# Altium integrated library Linear Technology Power Management Switching Regulator LT1074-LT8705.IntLib: 2252 symbols (part 84 of 148)
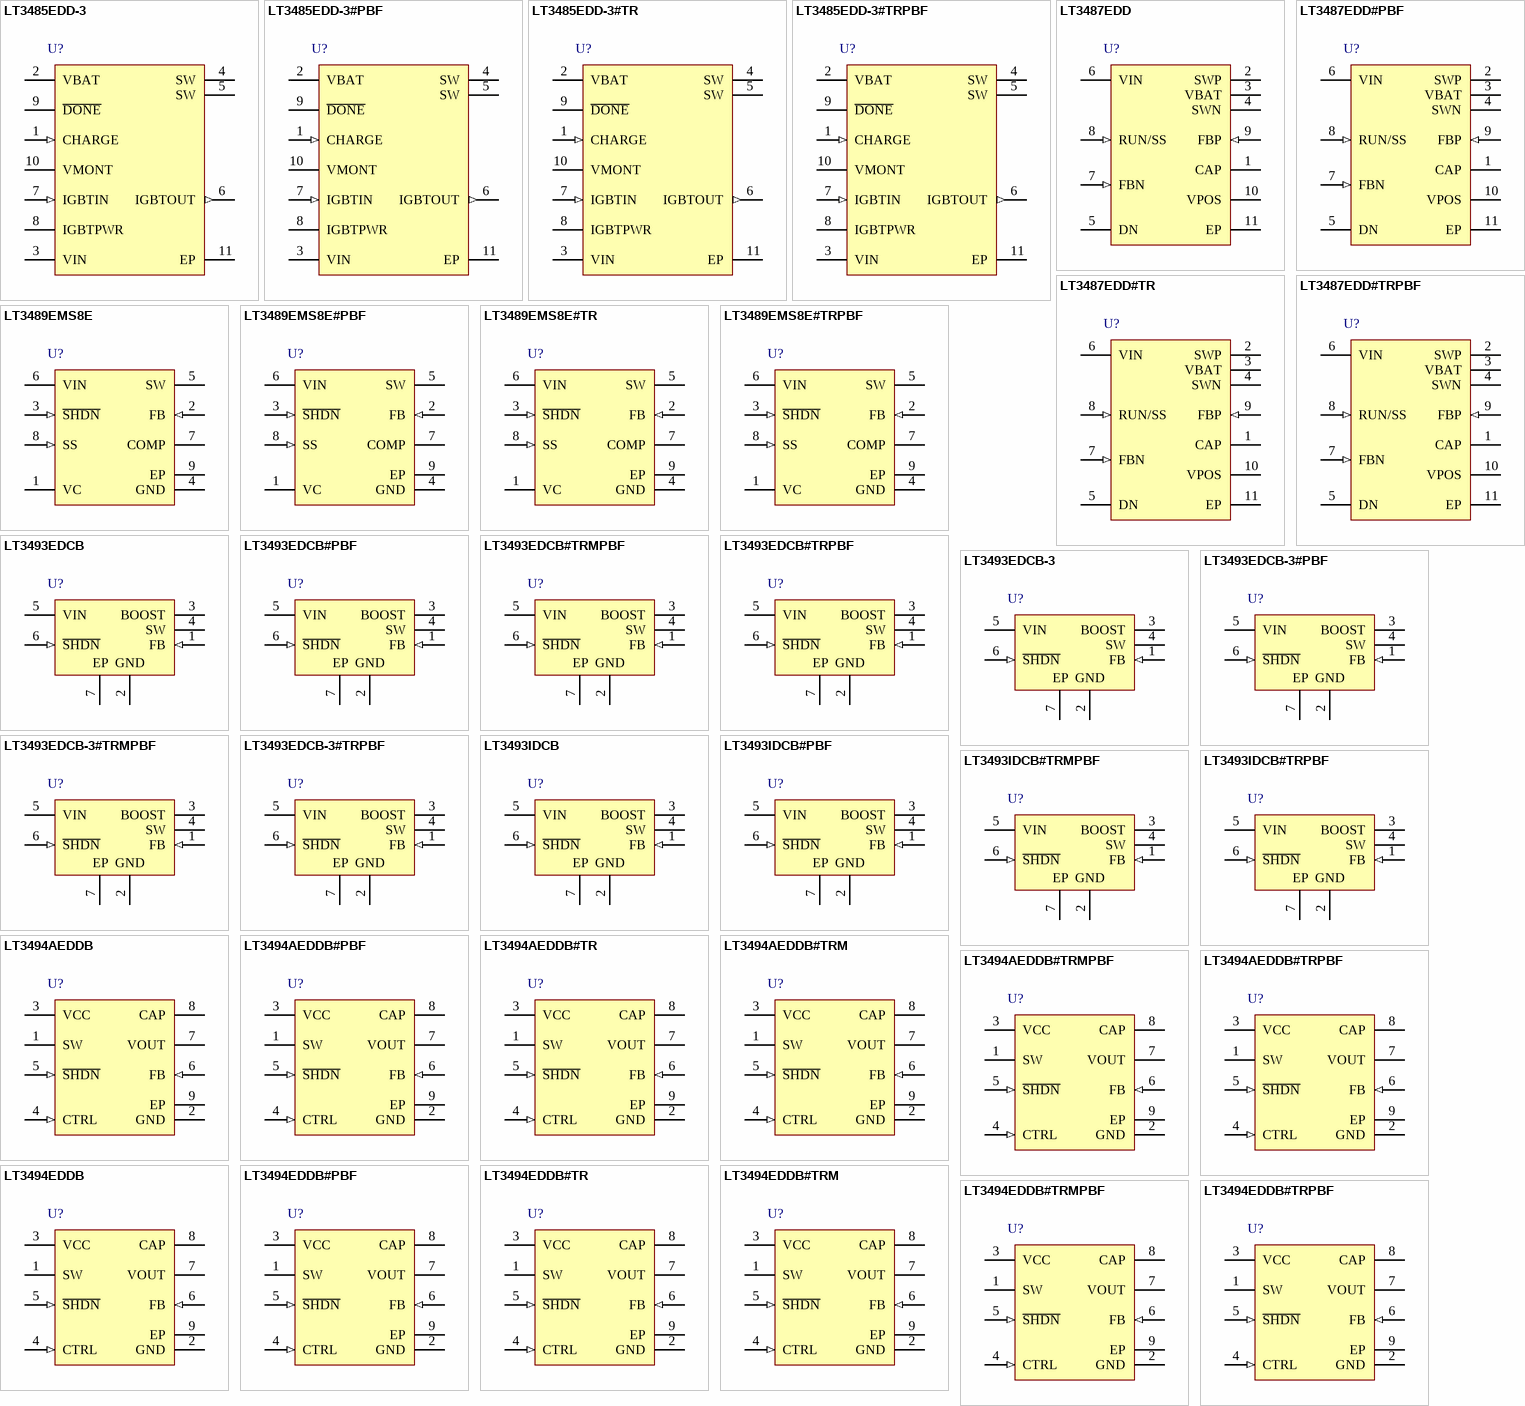
[diagram p154: symbols LT3485EDD-3 to LT3494EDDB#TRPBF]

## LT3493EDCB-3#PBF
designator U?
1.2 A, 750 kHz Step-Down Switching Regulator, 6-pin SON (DCB-6), -40 to 85 degC, Pb-Free; Manufacturer: Linear Technology; PartNumber: LT3493EDCB-3#PBF; Number of Outputs: 1; Over Voltage Protection(V): 40; PackageVersion: Rev. A, 03/2011; PackageReference: DCB-6; PackageDescription: 6-Pin Plastic DFN, Body 2 x 3 mm, Pitch 0.5 mm; RoHS: TRUE; Mounting Technology: Surface Mount; Code_JEDEC: MO-229; ComponentLink1Description: Manufacturer URL; ComponentLink1URL: http://www.linear.com/; ComponentLink2Description: Datasheet; ComponentLink2URL: http://cds.linear.com/docs/en/datasheet/3493-3f.pdf; ComponentLink3Description: Package Specification; ComponentLink3URL: http://www.linear.com/docs/en/packaging/(DCB6)%20DFN%2005-08-1715%20Rev%20A.pdf
footprint LT-DCB-6_V (SON, 6-Leads, Body 3x2mm, Pitch 0.5mm, Thermal Pad 1.65x1.35mm)
pins: 1 FB (in) "The LT3493-3 regulates its feedback pin to 780mV. Connect the feedback resistor divider tap to this pin. Set the output voltage according to VOUT = 0.78V x (1 + R1/R2). A good value for R2 is 10k.", 2 GND (power) "Tie the GND pin to a local ground plane below the LT3493-3 and the circuit components. Return the feedback divider to this pin.", 3 BOOST "The BOOST pin is used to provide a drive voltage, higher than the input voltage, to the internal bipolar NPN power switch.", 4 SW (power) "The SW pin is the output of the internal power switch. Connect this pin to the inductor, catch diode and boost capacitor.", 5 VIN (power) "The VIN pin supplies current to the LT3493-3's internal regulator and to the internal power switch. This pin must be locally bypassed.", 6 ~{SHDN} (in) "The S\H\D\N\ pin is used to put the LT3493-3 in shutdown mode. Tie to ground to shut down the LT3493-3. Tie to 2.3V or more for normal operation. If the shutdown feature is not used, tie this pin to the VIN pin. S\H\D\N\ (See Datasheet)", 7 EP (power) "The Exposed Pad must be soldered to the PCB and electrically connected to ground. Use a large ground plane and thermal vias to optimize thermal performance."

## LT3493EDCB-3#TRMPBF
designator U?
1.2 A, 750 kHz Step-Down Switching Regulator, 6-pin SON (DCB-6), -40 to 85 degC, Pb-Free, Mini Tape and Reel; Manufacturer: Linear Technology; PartNumber: LT3493EDCB-3#TRMPBF; Number of Outputs: 1; Over Voltage Protection(V): 40; PackageVersion: Rev. A, 03/2011; PackageReference: DCB-6; PackageDescription: 6-Pin Plastic DFN, Body 2 x 3 mm, Pitch 0.5 mm; Supplier 1: Digi-Key; Supplier Part Number 1: LT3493EDCB-3#TRMPBF-ND; Packing: Mini Tape and Reel; RoHS: TRUE; Mounting Technology: Surface Mount; Code_JEDEC: MO-229; ComponentLink1Description: Manufacturer URL; ComponentLink1URL: http://www.linear.com/; ComponentLink2Description: Datasheet; ComponentLink2URL: http://cds.linear.com/docs/en/datasheet/3493-3f.pdf; ComponentLink3Description: Package Specification; ComponentLink3URL: http://www.linear.com/docs/en/packaging/(DCB6)%20DFN%2005-08-1715%20Rev%20A.pdf
footprint LT-DCB-6_V (SON, 6-Leads, Body 3x2mm, Pitch 0.5mm, Thermal Pad 1.65x1.35mm)
pins: 1 FB (in) "The LT3493-3 regulates its feedback pin to 780mV. Connect the feedback resistor divider tap to this pin. Set the output voltage according to VOUT = 0.78V x (1 + R1/R2). A good value for R2 is 10k.", 2 GND (power) "Tie the GND pin to a local ground plane below the LT3493-3 and the circuit components. Return the feedback divider to this pin.", 3 BOOST "The BOOST pin is used to provide a drive voltage, higher than the input voltage, to the internal bipolar NPN power switch.", 4 SW (power) "The SW pin is the output of the internal power switch. Connect this pin to the inductor, catch diode and boost capacitor.", 5 VIN (power) "The VIN pin supplies current to the LT3493-3's internal regulator and to the internal power switch. This pin must be locally bypassed.", 6 ~{SHDN} (in) "The S\H\D\N\ pin is used to put the LT3493-3 in shutdown mode. Tie to ground to shut down the LT3493-3. Tie to 2.3V or more for normal operation. If the shutdown feature is not used, tie this pin to the VIN pin. S\H\D\N\ (See Datasheet)", 7 EP (power) "The Exposed Pad must be soldered to the PCB and electrically connected to ground. Use a large ground plane and thermal vias to optimize thermal performance."

## LT3493EDCB-3#TRPBF
designator U?
1.2 A, 750 kHz Step-Down Switching Regulator, 6-pin SON (DCB-6), -40 to 85 degC, Pb-Free, Tape and Reel; Manufacturer: Linear Technology; PartNumber: LT3493EDCB-3#TRPBF; Number of Outputs: 1; Over Voltage Protection(V): 40; PackageVersion: Rev. A, 03/2011; PackageReference: DCB-6; PackageDescription: 6-Pin Plastic DFN, Body 2 x 3 mm, Pitch 0.5 mm; Supplier 1: Digi-Key; Supplier Part Number 1: LT3493EDCB-3#TRPBF-ND; Packing: Tape and Reel; RoHS: TRUE; Mounting Technology: Surface Mount; Code_JEDEC: MO-229; ComponentLink1Description: Manufacturer URL; ComponentLink1URL: http://www.linear.com/; ComponentLink2Description: Datasheet; ComponentLink2URL: http://cds.linear.com/docs/en/datasheet/3493-3f.pdf; ComponentLink3Description: Package Specification; ComponentLink3URL: http://www.linear.com/docs/en/packaging/(DCB6)%20DFN%2005-08-1715%20Rev%20A.pdf
footprint LT-DCB-6_V (SON, 6-Leads, Body 3x2mm, Pitch 0.5mm, Thermal Pad 1.65x1.35mm)
pins: 1 FB (in) "The LT3493-3 regulates its feedback pin to 780mV. Connect the feedback resistor divider tap to this pin. Set the output voltage according to VOUT = 0.78V x (1 + R1/R2). A good value for R2 is 10k.", 2 GND (power) "Tie the GND pin to a local ground plane below the LT3493-3 and the circuit components. Return the feedback divider to this pin.", 3 BOOST "The BOOST pin is used to provide a drive voltage, higher than the input voltage, to the internal bipolar NPN power switch.", 4 SW (power) "The SW pin is the output of the internal power switch. Connect this pin to the inductor, catch diode and boost capacitor.", 5 VIN (power) "The VIN pin supplies current to the LT3493-3's internal regulator and to the internal power switch. This pin must be locally bypassed.", 6 ~{SHDN} (in) "The S\H\D\N\ pin is used to put the LT3493-3 in shutdown mode. Tie to ground to shut down the LT3493-3. Tie to 2.3V or more for normal operation. If the shutdown feature is not used, tie this pin to the VIN pin. S\H\D\N\ (See Datasheet)", 7 EP (power) "The Exposed Pad must be soldered to the PCB and electrically connected to ground. Use a large ground plane and thermal vias to optimize thermal performance."

## LT3493IDCB
designator U?
1.2 A, 750 kHz Step-Down Switching Regulator, 6-pin SON (DCB-6), -40 to 125 degC; Manufacturer: Linear Technology; PartNumber: LT3493IDCB; Number of Outputs: 1; Over Voltage Protection(V): 40; DatasheetVersion: Rev. B; PackageVersion: Rev. A, 03/2011; PackageReference: DCB-6; PackageDescription: 6-Pin Plastic DFN, Body 2 x 3 mm, Pitch 0.5 mm; Supplier 1: Newark; Supplier Part Number 1: 24W8908; RoHS: FALSE; Mounting Technology: Surface Mount; Code_JEDEC: MO-229; ComponentLink1Description: Manufacturer URL; ComponentLink1URL: http://www.linear.com/; ComponentLink2Description: Datasheet; ComponentLink2URL: http://cds.linear.com/docs/en/datasheet/3493fb.pdf; ComponentLink3Description: Package Specification; ComponentLink3URL: http://www.linear.com/docs/en/packaging/(DCB6)%20DFN%2005-08-1715%20Rev%20A.pdf
footprint LT-DCB-6_V (SON, 6-Leads, Body 3x2mm, Pitch 0.5mm, Thermal Pad 1.65x1.35mm)
pins: 1 FB (in) "The LT3493-3 regulates its feedback pin to 780mV. Connect the feedback resistor divider tap to this pin. Set the output voltage according to VOUT = 0.78V x (1 + R1/R2). A good value for R2 is 10k.", 2 GND (power) "Tie the GND pin to a local ground plane below the LT3493-3 and the circuit components. Return the feedback divider to this pin.", 3 BOOST "The BOOST pin is used to provide a drive voltage, higher than the input voltage, to the internal bipolar NPN power switch.", 4 SW (power) "The SW pin is the output of the internal power switch. Connect this pin to the inductor, catch diode and boost capacitor.", 5 VIN (power) "The VIN pin supplies current to the LT3493-3's internal regulator and to the internal power switch. This pin must be locally bypassed.", 6 ~{SHDN} (in) "The S\H\D\N\ pin is used to put the LT3493-3 in shutdown mode. Tie to ground to shut down the LT3493-3. Tie to 2.3V or more for normal operation. If the shutdown feature is not used, tie this pin to the VIN pin. S\H\D\N\ (See Datasheet)", 7 EP (power) "The Exposed Pad must be soldered to the PCB and electrically connected to ground. Use a large ground plane and thermal vias to optimize thermal performance."

## LT3493IDCB#PBF
designator U?
1.2 A, 750 kHz Step-Down Switching Regulator, 6-pin SON (DCB-6), -40 to 125 degC, Pb-Free; Manufacturer: Linear Technology; PartNumber: LT3493IDCB#PBF; Number of Outputs: 1; Over Voltage Protection(V): 40; DatasheetVersion: Rev. B; PackageVersion: Rev. A, 03/2011; PackageReference: DCB-6; PackageDescription: 6-Pin Plastic DFN, Body 2 x 3 mm, Pitch 0.5 mm; Supplier 1: Farnell; Supplier Part Number 1: 2294918; Supplier 2: Newark; Supplier Part Number 2: 06R5448; RoHS: TRUE; Mounting Technology: Surface Mount; Code_JEDEC: MO-229; ComponentLink1Description: Manufacturer URL; ComponentLink1URL: http://www.linear.com/; ComponentLink2Description: Datasheet; ComponentLink2URL: http://cds.linear.com/docs/en/datasheet/3493fb.pdf; ComponentLink3Description: Package Specification; ComponentLink3URL: http://www.linear.com/docs/en/packaging/(DCB6)%20DFN%2005-08-1715%20Rev%20A.pdf
footprint LT-DCB-6_V (SON, 6-Leads, Body 3x2mm, Pitch 0.5mm, Thermal Pad 1.65x1.35mm)
pins: 1 FB (in) "The LT3493-3 regulates its feedback pin to 780mV. Connect the feedback resistor divider tap to this pin. Set the output voltage according to VOUT = 0.78V x (1 + R1/R2). A good value for R2 is 10k.", 2 GND (power) "Tie the GND pin to a local ground plane below the LT3493-3 and the circuit components. Return the feedback divider to this pin.", 3 BOOST "The BOOST pin is used to provide a drive voltage, higher than the input voltage, to the internal bipolar NPN power switch.", 4 SW (power) "The SW pin is the output of the internal power switch. Connect this pin to the inductor, catch diode and boost capacitor.", 5 VIN (power) "The VIN pin supplies current to the LT3493-3's internal regulator and to the internal power switch. This pin must be locally bypassed.", 6 ~{SHDN} (in) "The S\H\D\N\ pin is used to put the LT3493-3 in shutdown mode. Tie to ground to shut down the LT3493-3. Tie to 2.3V or more for normal operation. If the shutdown feature is not used, tie this pin to the VIN pin. S\H\D\N\ (See Datasheet)", 7 EP (power) "The Exposed Pad must be soldered to the PCB and electrically connected to ground. Use a large ground plane and thermal vias to optimize thermal performance."

## LT3493IDCB#TRMPBF
designator U?
1.2 A, 750 kHz Step-Down Switching Regulator, 6-pin SON (DCB-6), -40 to 125 degC, Pb-Free, Mini Tape and Reel; Manufacturer: Linear Technology; PartNumber: LT3493IDCB#TRMPBF; Number of Outputs: 1; Over Voltage Protection(V): 40; DatasheetVersion: Rev. B; PackageVersion: Rev. A, 03/2011; PackageReference: DCB-6; PackageDescription: 6-Pin Plastic DFN, Body 2 x 3 mm, Pitch 0.5 mm; Supplier 1: Digi-Key; Supplier Part Number 1: LT3493IDCB#TRMPBF-ND; Supplier 2: Newark; Supplier Part Number 2: 57M8432; Packing: Mini Tape and Reel; RoHS: TRUE; Mounting Technology: Surface Mount; Code_JEDEC: MO-229; ComponentLink1Description: Manufacturer URL; ComponentLink1URL: http://www.linear.com/; ComponentLink2Description: Datasheet; ComponentLink2URL: http://cds.linear.com/docs/en/datasheet/3493fb.pdf; ComponentLink3Description: Package Specification; ComponentLink3URL: http://www.linear.com/docs/en/packaging/(DCB6)%20DFN%2005-08-1715%20Rev%20A.pdf
footprint LT-DCB-6_V (SON, 6-Leads, Body 3x2mm, Pitch 0.5mm, Thermal Pad 1.65x1.35mm)
pins: 1 FB (in) "The LT3493-3 regulates its feedback pin to 780mV. Connect the feedback resistor divider tap to this pin. Set the output voltage according to VOUT = 0.78V x (1 + R1/R2). A good value for R2 is 10k.", 2 GND (power) "Tie the GND pin to a local ground plane below the LT3493-3 and the circuit components. Return the feedback divider to this pin.", 3 BOOST "The BOOST pin is used to provide a drive voltage, higher than the input voltage, to the internal bipolar NPN power switch.", 4 SW (power) "The SW pin is the output of the internal power switch. Connect this pin to the inductor, catch diode and boost capacitor.", 5 VIN (power) "The VIN pin supplies current to the LT3493-3's internal regulator and to the internal power switch. This pin must be locally bypassed.", 6 ~{SHDN} (in) "The S\H\D\N\ pin is used to put the LT3493-3 in shutdown mode. Tie to ground to shut down the LT3493-3. Tie to 2.3V or more for normal operation. If the shutdown feature is not used, tie this pin to the VIN pin. S\H\D\N\ (See Datasheet)", 7 EP (power) "The Exposed Pad must be soldered to the PCB and electrically connected to ground. Use a large ground plane and thermal vias to optimize thermal performance."

## LT3493IDCB#TRPBF
designator U?
1.2 A, 750 kHz Step-Down Switching Regulator, 6-pin SON (DCB-6), -40 to 125 degC, Pb-Free, Tape and Reel; Manufacturer: Linear Technology; PartNumber: LT3493IDCB#TRPBF; Number of Outputs: 1; Over Voltage Protection(V): 40; DatasheetVersion: Rev. B; PackageVersion: Rev. A, 03/2011; PackageReference: DCB-6; PackageDescription: 6-Pin Plastic DFN, Body 2 x 3 mm, Pitch 0.5 mm; Supplier 1: Digi-Key; Supplier Part Number 1: LT3493IDCB#TRPBF-ND; Supplier 2: Newark; Supplier Part Number 2: 57M8433; Packing: Tape and Reel; RoHS: TRUE; Mounting Technology: Surface Mount; Code_JEDEC: MO-229; ComponentLink1Description: Manufacturer URL; ComponentLink1URL: http://www.linear.com/; ComponentLink2Description: Datasheet; ComponentLink2URL: http://cds.linear.com/docs/en/datasheet/3493fb.pdf; ComponentLink3Description: Package Specification; ComponentLink3URL: http://www.linear.com/docs/en/packaging/(DCB6)%20DFN%2005-08-1715%20Rev%20A.pdf
footprint LT-DCB-6_V (SON, 6-Leads, Body 3x2mm, Pitch 0.5mm, Thermal Pad 1.65x1.35mm)
pins: 1 FB (in) "The LT3493-3 regulates its feedback pin to 780mV. Connect the feedback resistor divider tap to this pin. Set the output voltage according to VOUT = 0.78V x (1 + R1/R2). A good value for R2 is 10k.", 2 GND (power) "Tie the GND pin to a local ground plane below the LT3493-3 and the circuit components. Return the feedback divider to this pin.", 3 BOOST "The BOOST pin is used to provide a drive voltage, higher than the input voltage, to the internal bipolar NPN power switch.", 4 SW (power) "The SW pin is the output of the internal power switch. Connect this pin to the inductor, catch diode and boost capacitor.", 5 VIN (power) "The VIN pin supplies current to the LT3493-3's internal regulator and to the internal power switch. This pin must be locally bypassed.", 6 ~{SHDN} (in) "The S\H\D\N\ pin is used to put the LT3493-3 in shutdown mode. Tie to ground to shut down the LT3493-3. Tie to 2.3V or more for normal operation. If the shutdown feature is not used, tie this pin to the VIN pin. S\H\D\N\ (See Datasheet)", 7 EP (power) "The Exposed Pad must be soldered to the PCB and electrically connected to ground. Use a large ground plane and thermal vias to optimize thermal performance."

## LT3494AEDDB
designator U?
Micropower Low Noise Boost Converter with Output Disconnect, 8-pin SON (DDB-8), -40 to 85 degC; Manufacturer: Linear Technology; PartNumber: LT3494AEDDB; Number of Outputs: 1; DatasheetVersion: Rev. B; PackageVersion: Rev. B, 06/2010; PackageReference: DDB-8; PackageDescription: 8-Pin Plastic DFN, Body 3 x 2 mm, Pitch 0.5 mm; RoHS: FALSE; Mounting Technology: Surface Mount; Code_JEDEC: MO-229; ComponentLink1Description: Manufacturer URL; ComponentLink1URL: http://www.linear.com/; ComponentLink2Description: Datasheet; ComponentLink2URL: http://cds.linear.com/docs/en/datasheet/3494fb.pdf; ComponentLink3Description: Package Specification; ComponentLink3URL: http://cds.linear.com/docs/en/packaging/DFN_8_05-08-1702.pdf
footprint LT-DDB-8_V (SON, 8-Leads, Body 3x2mm, Pitch 0.5mm, Thermal Pad 2.2x0.61mm)
pins: 1 SW "Switch Pin. This is the collector of the internal NPN power switch. Minimize the metal trace area connected to this pin to minimize EMI.", 2 GND (power) "Ground. Tie directly to local ground plane.", 3 VCC (power) "Input Supply Pin. Must be locally bypassed.", 4 CTRL (in) "Dimming Pin. If not used, tie CTRL to 1.5V or higher. If in use, drive CTRL below 1.225V to override the internal reference. See Applications Information for more information.", 5 ~{SHDN} (in) "Shutdown Pin. Tie to 1.5V or more to enable device. Ground to shut down.", 6 FB (in) "Feedback Pin. Reference voltage is 1.225V. There is an internal 182k resistor from the FB pin to GND. To achieve the desired output voltage, choose R1 according to the following formula: R1=182 x (VOUT(MAX)/1.225-1) kohm", 7 VOUT (power) "Drain of Output Disconnect PMOS. Place a bypass capacitor from this pin to GND. See Applications Information.", 8 CAP "This is the cathode of the internal Schottky diode. Place a bypass capacitor from this pin to GND.", 9 EP (power) "Ground. This pin must be soldered to PCB."

## LT3494AEDDB#PBF
designator U?
Micropower Low Noise Boost Converter with Output Disconnect, 8-pin SON (DDB-8), -40 to 85 degC, Pb-Free; Manufacturer: Linear Technology; PartNumber: LT3494AEDDB#PBF; Number of Outputs: 1; DatasheetVersion: Rev. B; PackageVersion: Rev. B, 06/2010; PackageReference: DDB-8; PackageDescription: 8-Pin Plastic DFN, Body 3 x 2 mm, Pitch 0.5 mm; Supplier 1: Farnell; Supplier Part Number 1: 2294919; Supplier 2: Newark; Supplier Part Number 2: 46P5040; RoHS: TRUE; Mounting Technology: Surface Mount; Code_JEDEC: MO-229; ComponentLink1Description: Manufacturer URL; ComponentLink1URL: http://www.linear.com/; ComponentLink2Description: Datasheet; ComponentLink2URL: http://cds.linear.com/docs/en/datasheet/3494fb.pdf; ComponentLink3Description: Package Specification; ComponentLink3URL: http://cds.linear.com/docs/en/packaging/DFN_8_05-08-1702.pdf
footprint LT-DDB-8_V (SON, 8-Leads, Body 3x2mm, Pitch 0.5mm, Thermal Pad 2.2x0.61mm)
pins: 1 SW "Switch Pin. This is the collector of the internal NPN power switch. Minimize the metal trace area connected to this pin to minimize EMI.", 2 GND (power) "Ground. Tie directly to local ground plane.", 3 VCC (power) "Input Supply Pin. Must be locally bypassed.", 4 CTRL (in) "Dimming Pin. If not used, tie CTRL to 1.5V or higher. If in use, drive CTRL below 1.225V to override the internal reference. See Applications Information for more information.", 5 ~{SHDN} (in) "Shutdown Pin. Tie to 1.5V or more to enable device. Ground to shut down.", 6 FB (in) "Feedback Pin. Reference voltage is 1.225V. There is an internal 182k resistor from the FB pin to GND. To achieve the desired output voltage, choose R1 according to the following formula: R1=182 x (VOUT(MAX)/1.225-1) kohm", 7 VOUT (power) "Drain of Output Disconnect PMOS. Place a bypass capacitor from this pin to GND. See Applications Information.", 8 CAP "This is the cathode of the internal Schottky diode. Place a bypass capacitor from this pin to GND.", 9 EP (power) "Ground. This pin must be soldered to PCB."

## LT3494AEDDB#TR
designator U?
Micropower Low Noise Boost Converter with Output Disconnect, 8-pin SON (DDB-8), -40 to 85 degC, Tape and Reel; Manufacturer: Linear Technology; PartNumber: LT3494AEDDB#TR; Number of Outputs: 1; DatasheetVersion: Rev. B; PackageVersion: Rev. B, 06/2010; PackageReference: DDB-8; PackageDescription: 8-Pin Plastic DFN, Body 3 x 2 mm, Pitch 0.5 mm; Packing: Tape and Reel; RoHS: FALSE; Mounting Technology: Surface Mount; Code_JEDEC: MO-229; ComponentLink1Description: Manufacturer URL; ComponentLink1URL: http://www.linear.com/; ComponentLink2Description: Datasheet; ComponentLink2URL: http://cds.linear.com/docs/en/datasheet/3494fb.pdf; ComponentLink3Description: Package Specification; ComponentLink3URL: http://cds.linear.com/docs/en/packaging/DFN_8_05-08-1702.pdf
footprint LT-DDB-8_V (SON, 8-Leads, Body 3x2mm, Pitch 0.5mm, Thermal Pad 2.2x0.61mm)
pins: 1 SW "Switch Pin. This is the collector of the internal NPN power switch. Minimize the metal trace area connected to this pin to minimize EMI.", 2 GND (power) "Ground. Tie directly to local ground plane.", 3 VCC (power) "Input Supply Pin. Must be locally bypassed.", 4 CTRL (in) "Dimming Pin. If not used, tie CTRL to 1.5V or higher. If in use, drive CTRL below 1.225V to override the internal reference. See Applications Information for more information.", 5 ~{SHDN} (in) "Shutdown Pin. Tie to 1.5V or more to enable device. Ground to shut down.", 6 FB (in) "Feedback Pin. Reference voltage is 1.225V. There is an internal 182k resistor from the FB pin to GND. To achieve the desired output voltage, choose R1 according to the following formula: R1=182 x (VOUT(MAX)/1.225-1) kohm", 7 VOUT (power) "Drain of Output Disconnect PMOS. Place a bypass capacitor from this pin to GND. See Applications Information.", 8 CAP "This is the cathode of the internal Schottky diode. Place a bypass capacitor from this pin to GND.", 9 EP (power) "Ground. This pin must be soldered to PCB."

## LT3494AEDDB#TRM
designator U?
Micropower Low Noise Boost Converter with Output Disconnect, 8-pin SON (DDB-8), -40 to 85 degC, Mini Tape and Reel; Manufacturer: Linear Technology; PartNumber: LT3494AEDDB#TRM; Number of Outputs: 1; DatasheetVersion: Rev. B; PackageVersion: Rev. B, 06/2010; PackageReference: DDB-8; PackageDescription: 8-Pin Plastic DFN, Body 3 x 2 mm, Pitch 0.5 mm; Packing: Mini Tape and Reel; RoHS: FALSE; Mounting Technology: Surface Mount; Code_JEDEC: MO-229; ComponentLink1Description: Manufacturer URL; ComponentLink1URL: http://www.linear.com/; ComponentLink2Description: Datasheet; ComponentLink2URL: http://cds.linear.com/docs/en/datasheet/3494fb.pdf; ComponentLink3Description: Package Specification; ComponentLink3URL: http://cds.linear.com/docs/en/packaging/DFN_8_05-08-1702.pdf
footprint LT-DDB-8_V (SON, 8-Leads, Body 3x2mm, Pitch 0.5mm, Thermal Pad 2.2x0.61mm)
pins: 1 SW "Switch Pin. This is the collector of the internal NPN power switch. Minimize the metal trace area connected to this pin to minimize EMI.", 2 GND (power) "Ground. Tie directly to local ground plane.", 3 VCC (power) "Input Supply Pin. Must be locally bypassed.", 4 CTRL (in) "Dimming Pin. If not used, tie CTRL to 1.5V or higher. If in use, drive CTRL below 1.225V to override the internal reference. See Applications Information for more information.", 5 ~{SHDN} (in) "Shutdown Pin. Tie to 1.5V or more to enable device. Ground to shut down.", 6 FB (in) "Feedback Pin. Reference voltage is 1.225V. There is an internal 182k resistor from the FB pin to GND. To achieve the desired output voltage, choose R1 according to the following formula: R1=182 x (VOUT(MAX)/1.225-1) kohm", 7 VOUT (power) "Drain of Output Disconnect PMOS. Place a bypass capacitor from this pin to GND. See Applications Information.", 8 CAP "This is the cathode of the internal Schottky diode. Place a bypass capacitor from this pin to GND.", 9 EP (power) "Ground. This pin must be soldered to PCB."

## LT3494AEDDB#TRMPBF
designator U?
Micropower Low Noise Boost Converter with Output Disconnect, 8-pin SON (DDB-8), -40 to 85 degC, Pb-Free, Mini Tape and Reel; Manufacturer: Linear Technology; PartNumber: LT3494AEDDB#TRMPBF; Number of Outputs: 1; DatasheetVersion: Rev. B; PackageVersion: Rev. B, 06/2010; PackageReference: DDB-8; PackageDescription: 8-Pin Plastic DFN, Body 3 x 2 mm, Pitch 0.5 mm; Supplier 1: Digi-Key; Supplier Part Number 1: LT3494AEDDB#TRMPBFTR-ND; Supplier 2: Digi-Key; Supplier Part Number 2: LT3494AEDDB#TRMPBFCT-ND; Supplier 3: Digi-Key; Supplier Part Number 3: LT3494AEDDB#TRMPBFDKR-ND; Supplier 4: Newark; Supplier Part Number 4: 57M8436; Packing: Mini Tape and Reel; RoHS: TRUE; Mounting Technology: Surface Mount; Code_JEDEC: MO-229; ComponentLink1Description: Manufacturer URL; ComponentLink1URL: http://www.linear.com/; ComponentLink2Description: Datasheet; ComponentLink2URL: http://cds.linear.com/docs/en/datasheet/3494fb.pdf; ComponentLink3Description: Package Specification; ComponentLink3URL: http://cds.linear.com/docs/en/packaging/DFN_8_05-08-1702.pdf
footprint LT-DDB-8_V (SON, 8-Leads, Body 3x2mm, Pitch 0.5mm, Thermal Pad 2.2x0.61mm)
pins: 1 SW "Switch Pin. This is the collector of the internal NPN power switch. Minimize the metal trace area connected to this pin to minimize EMI.", 2 GND (power) "Ground. Tie directly to local ground plane.", 3 VCC (power) "Input Supply Pin. Must be locally bypassed.", 4 CTRL (in) "Dimming Pin. If not used, tie CTRL to 1.5V or higher. If in use, drive CTRL below 1.225V to override the internal reference. See Applications Information for more information.", 5 ~{SHDN} (in) "Shutdown Pin. Tie to 1.5V or more to enable device. Ground to shut down.", 6 FB (in) "Feedback Pin. Reference voltage is 1.225V. There is an internal 182k resistor from the FB pin to GND. To achieve the desired output voltage, choose R1 according to the following formula: R1=182 x (VOUT(MAX)/1.225-1) kohm", 7 VOUT (power) "Drain of Output Disconnect PMOS. Place a bypass capacitor from this pin to GND. See Applications Information.", 8 CAP "This is the cathode of the internal Schottky diode. Place a bypass capacitor from this pin to GND.", 9 EP (power) "Ground. This pin must be soldered to PCB."

## LT3494AEDDB#TRPBF
designator U?
Micropower Low Noise Boost Converter with Output Disconnect, 8-pin SON (DDB-8), -40 to 85 degC, Pb-Free, Tape and Reel; Manufacturer: Linear Technology; PartNumber: LT3494AEDDB#TRPBF; Number of Outputs: 1; DatasheetVersion: Rev. B; PackageVersion: Rev. B, 06/2010; PackageReference: DDB-8; PackageDescription: 8-Pin Plastic DFN, Body 3 x 2 mm, Pitch 0.5 mm; Supplier 1: Digi-Key; Supplier Part Number 1: LT3494AEDDB#TRPBF-ND; Supplier 2: Newark; Supplier Part Number 2: 57M8437; Packing: Tape and Reel; RoHS: TRUE; Mounting Technology: Surface Mount; Code_JEDEC: MO-229; ComponentLink1Description: Manufacturer URL; ComponentLink1URL: http://www.linear.com/; ComponentLink2Description: Datasheet; ComponentLink2URL: http://cds.linear.com/docs/en/datasheet/3494fb.pdf; ComponentLink3Description: Package Specification; ComponentLink3URL: http://cds.linear.com/docs/en/packaging/DFN_8_05-08-1702.pdf
footprint LT-DDB-8_V (SON, 8-Leads, Body 3x2mm, Pitch 0.5mm, Thermal Pad 2.2x0.61mm)
pins: 1 SW "Switch Pin. This is the collector of the internal NPN power switch. Minimize the metal trace area connected to this pin to minimize EMI.", 2 GND (power) "Ground. Tie directly to local ground plane.", 3 VCC (power) "Input Supply Pin. Must be locally bypassed.", 4 CTRL (in) "Dimming Pin. If not used, tie CTRL to 1.5V or higher. If in use, drive CTRL below 1.225V to override the internal reference. See Applications Information for more information.", 5 ~{SHDN} (in) "Shutdown Pin. Tie to 1.5V or more to enable device. Ground to shut down.", 6 FB (in) "Feedback Pin. Reference voltage is 1.225V. There is an internal 182k resistor from the FB pin to GND. To achieve the desired output voltage, choose R1 according to the following formula: R1=182 x (VOUT(MAX)/1.225-1) kohm", 7 VOUT (power) "Drain of Output Disconnect PMOS. Place a bypass capacitor from this pin to GND. See Applications Information.", 8 CAP "This is the cathode of the internal Schottky diode. Place a bypass capacitor from this pin to GND.", 9 EP (power) "Ground. This pin must be soldered to PCB."

## LT3494EDDB
designator U?
Micropower Low Noise Boost Converter with Output Disconnect, 8-pin SON (DDB-8), -40 to 85 degC; Manufacturer: Linear Technology; PartNumber: LT3494EDDB; Number of Outputs: 1; DatasheetVersion: Rev. B; PackageVersion: Rev. B, 06/2010; PackageReference: DDB-8; PackageDescription: 8-Pin Plastic DFN, Body 3 x 2 mm, Pitch 0.5 mm; RoHS: FALSE; Mounting Technology: Surface Mount; Code_JEDEC: MO-229; ComponentLink1Description: Manufacturer URL; ComponentLink1URL: http://www.linear.com/; ComponentLink2Description: Datasheet; ComponentLink2URL: http://cds.linear.com/docs/en/datasheet/3494fb.pdf; ComponentLink3Description: Package Specification; ComponentLink3URL: http://cds.linear.com/docs/en/packaging/DFN_8_05-08-1702.pdf
footprint LT-DDB-8_V (SON, 8-Leads, Body 3x2mm, Pitch 0.5mm, Thermal Pad 2.2x0.61mm)
pins: 1 SW "Switch Pin. This is the collector of the internal NPN power switch. Minimize the metal trace area connected to this pin to minimize EMI.", 2 GND (power) "Ground. Tie directly to local ground plane.", 3 VCC (power) "Input Supply Pin. Must be locally bypassed.", 4 CTRL (in) "Dimming Pin. If not used, tie CTRL to 1.5V or higher. If in use, drive CTRL below 1.225V to override the internal reference. See Applications Information for more information.", 5 ~{SHDN} (in) "Shutdown Pin. Tie to 1.5V or more to enable device. Ground to shut down.", 6 FB (in) "Feedback Pin. Reference voltage is 1.225V. There is an internal 182k resistor from the FB pin to GND. To achieve the desired output voltage, choose R1 according to the following formula: R1=182 x (VOUT(MAX)/1.225-1) kohm", 7 VOUT (power) "Drain of Output Disconnect PMOS. Place a bypass capacitor from this pin to GND. See Applications Information.", 8 CAP "This is the cathode of the internal Schottky diode. Place a bypass capacitor from this pin to GND.", 9 EP (power) "Ground. This pin must be soldered to PCB."

## LT3494EDDB#PBF
designator U?
Micropower Low Noise Boost Converter with Output Disconnect, 8-pin SON (DDB-8), -40 to 85 degC, Pb-Free; Manufacturer: Linear Technology; PartNumber: LT3494EDDB#PBF; Number of Outputs: 1; DatasheetVersion: Rev. B; PackageVersion: Rev. B, 06/2010; PackageReference: DDB-8; PackageDescription: 8-Pin Plastic DFN, Body 3 x 2 mm, Pitch 0.5 mm; Supplier 1: Farnell; Supplier Part Number 1: 2308208; Supplier 2: Newark; Supplier Part Number 2: 78T4017; RoHS: TRUE; Mounting Technology: Surface Mount; Code_JEDEC: MO-229; ComponentLink1Description: Manufacturer URL; ComponentLink1URL: http://www.linear.com/; ComponentLink2Description: Datasheet; ComponentLink2URL: http://cds.linear.com/docs/en/datasheet/3494fb.pdf; ComponentLink3Description: Package Specification; ComponentLink3URL: http://cds.linear.com/docs/en/packaging/DFN_8_05-08-1702.pdf
footprint LT-DDB-8_V (SON, 8-Leads, Body 3x2mm, Pitch 0.5mm, Thermal Pad 2.2x0.61mm)
pins: 1 SW "Switch Pin. This is the collector of the internal NPN power switch. Minimize the metal trace area connected to this pin to minimize EMI.", 2 GND (power) "Ground. Tie directly to local ground plane.", 3 VCC (power) "Input Supply Pin. Must be locally bypassed.", 4 CTRL (in) "Dimming Pin. If not used, tie CTRL to 1.5V or higher. If in use, drive CTRL below 1.225V to override the internal reference. See Applications Information for more information.", 5 ~{SHDN} (in) "Shutdown Pin. Tie to 1.5V or more to enable device. Ground to shut down.", 6 FB (in) "Feedback Pin. Reference voltage is 1.225V. There is an internal 182k resistor from the FB pin to GND. To achieve the desired output voltage, choose R1 according to the following formula: R1=182 x (VOUT(MAX)/1.225-1) kohm", 7 VOUT (power) "Drain of Output Disconnect PMOS. Place a bypass capacitor from this pin to GND. See Applications Information.", 8 CAP "This is the cathode of the internal Schottky diode. Place a bypass capacitor from this pin to GND.", 9 EP (power) "Ground. This pin must be soldered to PCB."

## LT3494EDDB#TR
designator U?
Micropower Low Noise Boost Converter with Output Disconnect, 8-pin SON (DDB-8), -40 to 85 degC, Tape and Reel; Manufacturer: Linear Technology; PartNumber: LT3494EDDB#TR; Number of Outputs: 1; DatasheetVersion: Rev. B; PackageVersion: Rev. B, 06/2010; PackageReference: DDB-8; PackageDescription: 8-Pin Plastic DFN, Body 3 x 2 mm, Pitch 0.5 mm; Packing: Tape and Reel; RoHS: FALSE; Mounting Technology: Surface Mount; Code_JEDEC: MO-229; ComponentLink1Description: Manufacturer URL; ComponentLink1URL: http://www.linear.com/; ComponentLink2Description: Datasheet; ComponentLink2URL: http://cds.linear.com/docs/en/datasheet/3494fb.pdf; ComponentLink3Description: Package Specification; ComponentLink3URL: http://cds.linear.com/docs/en/packaging/DFN_8_05-08-1702.pdf
footprint LT-DDB-8_V (SON, 8-Leads, Body 3x2mm, Pitch 0.5mm, Thermal Pad 2.2x0.61mm)
pins: 1 SW "Switch Pin. This is the collector of the internal NPN power switch. Minimize the metal trace area connected to this pin to minimize EMI.", 2 GND (power) "Ground. Tie directly to local ground plane.", 3 VCC (power) "Input Supply Pin. Must be locally bypassed.", 4 CTRL (in) "Dimming Pin. If not used, tie CTRL to 1.5V or higher. If in use, drive CTRL below 1.225V to override the internal reference. See Applications Information for more information.", 5 ~{SHDN} (in) "Shutdown Pin. Tie to 1.5V or more to enable device. Ground to shut down.", 6 FB (in) "Feedback Pin. Reference voltage is 1.225V. There is an internal 182k resistor from the FB pin to GND. To achieve the desired output voltage, choose R1 according to the following formula: R1=182 x (VOUT(MAX)/1.225-1) kohm", 7 VOUT (power) "Drain of Output Disconnect PMOS. Place a bypass capacitor from this pin to GND. See Applications Information.", 8 CAP "This is the cathode of the internal Schottky diode. Place a bypass capacitor from this pin to GND.", 9 EP (power) "Ground. This pin must be soldered to PCB."

## LT3494EDDB#TRM
designator U?
Micropower Low Noise Boost Converter with Output Disconnect, 8-pin SON (DDB-8), -40 to 85 degC, Mini Tape and Reel; Manufacturer: Linear Technology; PartNumber: LT3494EDDB#TRM; Number of Outputs: 1; DatasheetVersion: Rev. B; PackageVersion: Rev. B, 06/2010; PackageReference: DDB-8; PackageDescription: 8-Pin Plastic DFN, Body 3 x 2 mm, Pitch 0.5 mm; Packing: Mini Tape and Reel; RoHS: FALSE; Mounting Technology: Surface Mount; Code_JEDEC: MO-229; ComponentLink1Description: Manufacturer URL; ComponentLink1URL: http://www.linear.com/; ComponentLink2Description: Datasheet; ComponentLink2URL: http://cds.linear.com/docs/en/datasheet/3494fb.pdf; ComponentLink3Description: Package Specification; ComponentLink3URL: http://cds.linear.com/docs/en/packaging/DFN_8_05-08-1702.pdf
footprint LT-DDB-8_V (SON, 8-Leads, Body 3x2mm, Pitch 0.5mm, Thermal Pad 2.2x0.61mm)
pins: 1 SW "Switch Pin. This is the collector of the internal NPN power switch. Minimize the metal trace area connected to this pin to minimize EMI.", 2 GND (power) "Ground. Tie directly to local ground plane.", 3 VCC (power) "Input Supply Pin. Must be locally bypassed.", 4 CTRL (in) "Dimming Pin. If not used, tie CTRL to 1.5V or higher. If in use, drive CTRL below 1.225V to override the internal reference. See Applications Information for more information.", 5 ~{SHDN} (in) "Shutdown Pin. Tie to 1.5V or more to enable device. Ground to shut down.", 6 FB (in) "Feedback Pin. Reference voltage is 1.225V. There is an internal 182k resistor from the FB pin to GND. To achieve the desired output voltage, choose R1 according to the following formula: R1=182 x (VOUT(MAX)/1.225-1) kohm", 7 VOUT (power) "Drain of Output Disconnect PMOS. Place a bypass capacitor from this pin to GND. See Applications Information.", 8 CAP "This is the cathode of the internal Schottky diode. Place a bypass capacitor from this pin to GND.", 9 EP (power) "Ground. This pin must be soldered to PCB."

## LT3494EDDB#TRMPBF
designator U?
Micropower Low Noise Boost Converter with Output Disconnect, 8-pin SON (DDB-8), -40 to 85 degC, Pb-Free, Mini Tape and Reel; Manufacturer: Linear Technology; PartNumber: LT3494EDDB#TRMPBF; Number of Outputs: 1; DatasheetVersion: Rev. B; PackageVersion: Rev. B, 06/2010; PackageReference: DDB-8; PackageDescription: 8-Pin Plastic DFN, Body 3 x 2 mm, Pitch 0.5 mm; Supplier 1: Digi-Key; Supplier Part Number 1: LT3494EDDB#TRMPBFTR-ND; Supplier 2: Digi-Key; Supplier Part Number 2: LT3494EDDB#TRMPBFCT-ND; Supplier 3: Digi-Key; Supplier Part Number 3: LT3494EDDB#TRMPBFDKR-ND; Supplier 4: Farnell; Supplier Part Number 4: 1715221RL; Supplier 5: Farnell; Supplier Part Number 5: 1715221; Supplier 6: Newark; Supplier Part Number 6: 12P8666; Packing: Mini Tape and Reel; RoHS: TRUE; Mounting Technology: Surface Mount; Code_JEDEC: MO-229; ComponentLink1Description: Manufacturer URL; ComponentLink1URL: http://www.linear.com/; ComponentLink2Description: Datasheet; ComponentLink2URL: http://cds.linear.com/docs/en/datasheet/3494fb.pdf; ComponentLink3Description: Package Specification; ComponentLink3URL: http://cds.linear.com/docs/en/packaging/DFN_8_05-08-1702.pdf
footprint LT-DDB-8_V (SON, 8-Leads, Body 3x2mm, Pitch 0.5mm, Thermal Pad 2.2x0.61mm)
pins: 1 SW "Switch Pin. This is the collector of the internal NPN power switch. Minimize the metal trace area connected to this pin to minimize EMI.", 2 GND (power) "Ground. Tie directly to local ground plane.", 3 VCC (power) "Input Supply Pin. Must be locally bypassed.", 4 CTRL (in) "Dimming Pin. If not used, tie CTRL to 1.5V or higher. If in use, drive CTRL below 1.225V to override the internal reference. See Applications Information for more information.", 5 ~{SHDN} (in) "Shutdown Pin. Tie to 1.5V or more to enable device. Ground to shut down.", 6 FB (in) "Feedback Pin. Reference voltage is 1.225V. There is an internal 182k resistor from the FB pin to GND. To achieve the desired output voltage, choose R1 according to the following formula: R1=182 x (VOUT(MAX)/1.225-1) kohm", 7 VOUT (power) "Drain of Output Disconnect PMOS. Place a bypass capacitor from this pin to GND. See Applications Information.", 8 CAP "This is the cathode of the internal Schottky diode. Place a bypass capacitor from this pin to GND.", 9 EP (power) "Ground. This pin must be soldered to PCB."

## LT3494EDDB#TRPBF
designator U?
Micropower Low Noise Boost Converter with Output Disconnect, 8-pin SON (DDB-8), -40 to 85 degC, Pb-Free, Tape and Reel; Manufacturer: Linear Technology; PartNumber: LT3494EDDB#TRPBF; Number of Outputs: 1; DatasheetVersion: Rev. B; PackageVersion: Rev. B, 06/2010; PackageReference: DDB-8; PackageDescription: 8-Pin Plastic DFN, Body 3 x 2 mm, Pitch 0.5 mm; Supplier 1: Digi-Key; Supplier Part Number 1: LT3494EDDB#TRPBF-ND; Supplier 2: Newark; Supplier Part Number 2: 12P8667; Packing: Tape and Reel; RoHS: TRUE; Mounting Technology: Surface Mount; Code_JEDEC: MO-229; ComponentLink1Description: Manufacturer URL; ComponentLink1URL: http://www.linear.com/; ComponentLink2Description: Datasheet; ComponentLink2URL: http://cds.linear.com/docs/en/datasheet/3494fb.pdf; ComponentLink3Description: Package Specification; ComponentLink3URL: http://cds.linear.com/docs/en/packaging/DFN_8_05-08-1702.pdf
footprint LT-DDB-8_V (SON, 8-Leads, Body 3x2mm, Pitch 0.5mm, Thermal Pad 2.2x0.61mm)
pins: 1 SW "Switch Pin. This is the collector of the internal NPN power switch. Minimize the metal trace area connected to this pin to minimize EMI.", 2 GND (power) "Ground. Tie directly to local ground plane.", 3 VCC (power) "Input Supply Pin. Must be locally bypassed.", 4 CTRL (in) "Dimming Pin. If not used, tie CTRL to 1.5V or higher. If in use, drive CTRL below 1.225V to override the internal reference. See Applications Information for more information.", 5 ~{SHDN} (in) "Shutdown Pin. Tie to 1.5V or more to enable device. Ground to shut down.", 6 FB (in) "Feedback Pin. Reference voltage is 1.225V. There is an internal 182k resistor from the FB pin to GND. To achieve the desired output voltage, choose R1 according to the following formula: R1=182 x (VOUT(MAX)/1.225-1) kohm", 7 VOUT (power) "Drain of Output Disconnect PMOS. Place a bypass capacitor from this pin to GND. See Applications Information.", 8 CAP "This is the cathode of the internal Schottky diode. Place a bypass capacitor from this pin to GND.", 9 EP (power) "Ground. This pin must be soldered to PCB."

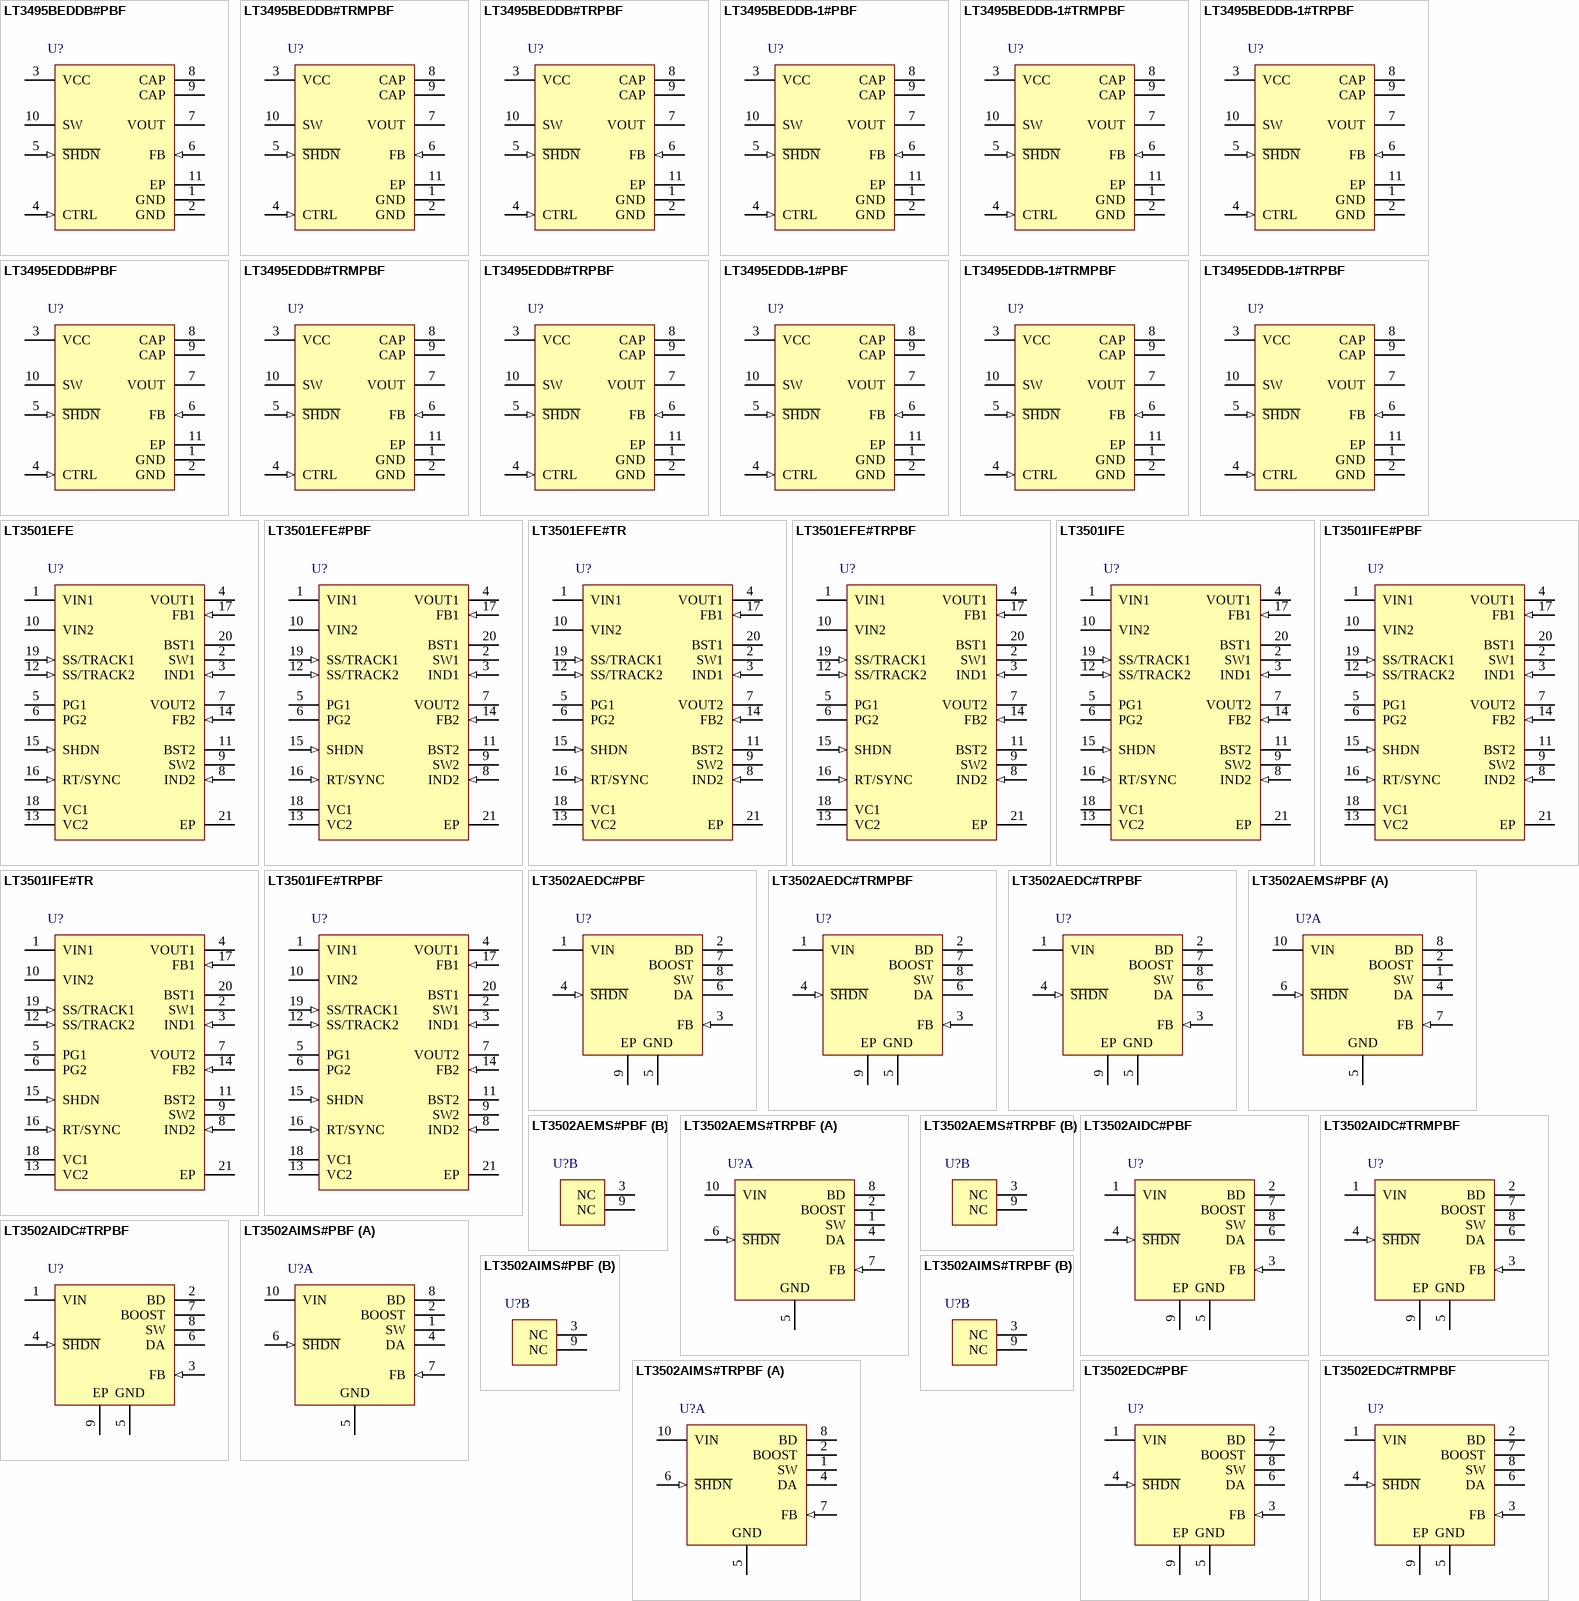
[diagram p43: symbols LT3495BEDDB#PBF to LT3502EDC#TRMPBF]

## LT3495BEDDB#PBF
designator U?
650 mA / 350 mA Micropower Low Noise Boost Converter with Output Disconnect, 10-pin SON (DDB10), -40 to 125 degC, Pb-Free; Manufacturer: Linear Technology; PartNumber: LT3495BEDDB#PBF; Number of Outputs: 1; DatasheetVersion: Rev. A; PackageVersion: Rev. Ø, 06/2010; PackageReference: DDB10; PackageDescription: 10-Pin Plastic DFN, Body 3 x 2 mm, Pitch 0.5 mm; RoHS: TRUE; Mounting Technology: Surface Mount; Code_JEDEC: MO-229; ComponentLink1Description: Manufacturer URL; ComponentLink1URL: http://www.linear.com/; ComponentLink2Description: Datasheet; ComponentLink2URL: http://cds.linear.com/docs/en/datasheet/3495b1b1fa.pdf; ComponentLink3Description: Package Specification; ComponentLink3URL: http://cds.linear.com/docs/en/packaging/DFN_10_05-08-1722.pdf
footprint LT-DDB-10_V (SON, 10-Leads, Body 3x2mm, Pitch 0.5mm, Thermal Pad 2.39x0.64mm)
pins: 1 GND (power) "Ground. Tie directly to local ground plane.", 2 GND (power) "Ground. Tie directly to local ground plane.", 3 VCC (power) "Input Supply Pin. Must be locally bypassed.", 4 CTRL (in) "Dimming Pin. If not used, tie CTRL to 1.5V or higher. If in use, drive CTRL below 1.235V to override the internal reference. See Applications section for more information.", 5 ~{SHDN} (in) "Shutdown Pin. Tie to 1.5V or more to enable chip. Ground to shut down.", 6 FB (in) "Feedback Pin. Minimize the metal trace area to this pin to minimize noise. Reference voltage is 1.235V. There is an internal 76k resistor from the FB pin to GND.", 7 VOUT (power) "Drain of Output Disconnect PMOS. Place a bypass capacitor from this pin to GND. See Applications information.", 8 CAP "Source of Output Disconnect PMOS. Place a bypass capacitor from this pin to GND.", 9 CAP "Source of Output Disconnect PMOS. Place a bypass capacitor from this pin to GND.", 10 SW "Switch Pin. This is the collector of the internal NPN power switch. Minimize the metal trace area connected to this pin to minimize EMI.", 11 EP (power) "Ground. This pin must be soldered to PCB."

## LT3495BEDDB#TRMPBF
designator U?
650 mA / 350 mA Micropower Low Noise Boost Converter with Output Disconnect, 10-pin SON (DDB10), -40 to 125 degC, Pb-Free, Mini Tape and Reel; Manufacturer: Linear Technology; PartNumber: LT3495BEDDB#TRMPBF; Number of Outputs: 1; DatasheetVersion: Rev. A; PackageVersion: Rev. Ø, 06/2010; PackageReference: DDB10; PackageDescription: 10-Pin Plastic DFN, Body 3 x 2 mm, Pitch 0.5 mm; Supplier 1: Digi-Key; Supplier Part Number 1: LT3495BEDDB#TRMPBFTR-ND; Supplier 2: Digi-Key; Supplier Part Number 2: LT3495BEDDB#TRMPBFCT-ND; Supplier 3: Digi-Key; Supplier Part Number 3: LT3495BEDDB#TRMPBFDKR-ND; Packing: Mini Tape and Reel; RoHS: TRUE; Mounting Technology: Surface Mount; Code_JEDEC: MO-229; ComponentLink1Description: Manufacturer URL; ComponentLink1URL: http://www.linear.com/; ComponentLink2Description: Datasheet; ComponentLink2URL: http://cds.linear.com/docs/en/datasheet/3495b1b1fa.pdf; ComponentLink3Description: Package Specification; ComponentLink3URL: http://cds.linear.com/docs/en/packaging/DFN_10_05-08-1722.pdf
footprint LT-DDB-10_V (SON, 10-Leads, Body 3x2mm, Pitch 0.5mm, Thermal Pad 2.39x0.64mm)
pins: 1 GND (power) "Ground. Tie directly to local ground plane.", 2 GND (power) "Ground. Tie directly to local ground plane.", 3 VCC (power) "Input Supply Pin. Must be locally bypassed.", 4 CTRL (in) "Dimming Pin. If not used, tie CTRL to 1.5V or higher. If in use, drive CTRL below 1.235V to override the internal reference. See Applications section for more information.", 5 ~{SHDN} (in) "Shutdown Pin. Tie to 1.5V or more to enable chip. Ground to shut down.", 6 FB (in) "Feedback Pin. Minimize the metal trace area to this pin to minimize noise. Reference voltage is 1.235V. There is an internal 76k resistor from the FB pin to GND.", 7 VOUT (power) "Drain of Output Disconnect PMOS. Place a bypass capacitor from this pin to GND. See Applications information.", 8 CAP "Source of Output Disconnect PMOS. Place a bypass capacitor from this pin to GND.", 9 CAP "Source of Output Disconnect PMOS. Place a bypass capacitor from this pin to GND.", 10 SW "Switch Pin. This is the collector of the internal NPN power switch. Minimize the metal trace area connected to this pin to minimize EMI.", 11 EP (power) "Ground. This pin must be soldered to PCB."

## LT3495BEDDB#TRPBF
designator U?
650 mA / 350 mA Micropower Low Noise Boost Converter with Output Disconnect, 10-pin SON (DDB10), -40 to 125 degC, Pb-Free, Tape and Reel; Manufacturer: Linear Technology; PartNumber: LT3495BEDDB#TRPBF; Number of Outputs: 1; DatasheetVersion: Rev. A; PackageVersion: Rev. Ø, 06/2010; PackageReference: DDB10; PackageDescription: 10-Pin Plastic DFN, Body 3 x 2 mm, Pitch 0.5 mm; Supplier 1: Digi-Key; Supplier Part Number 1: LT3495BEDDB#TRPBF-ND; Packing: Tape and Reel; RoHS: TRUE; Mounting Technology: Surface Mount; Code_JEDEC: MO-229; ComponentLink1Description: Manufacturer URL; ComponentLink1URL: http://www.linear.com/; ComponentLink2Description: Datasheet; ComponentLink2URL: http://cds.linear.com/docs/en/datasheet/3495b1b1fa.pdf; ComponentLink3Description: Package Specification; ComponentLink3URL: http://cds.linear.com/docs/en/packaging/DFN_10_05-08-1722.pdf
footprint LT-DDB-10_V (SON, 10-Leads, Body 3x2mm, Pitch 0.5mm, Thermal Pad 2.39x0.64mm)
pins: 1 GND (power) "Ground. Tie directly to local ground plane.", 2 GND (power) "Ground. Tie directly to local ground plane.", 3 VCC (power) "Input Supply Pin. Must be locally bypassed.", 4 CTRL (in) "Dimming Pin. If not used, tie CTRL to 1.5V or higher. If in use, drive CTRL below 1.235V to override the internal reference. See Applications section for more information.", 5 ~{SHDN} (in) "Shutdown Pin. Tie to 1.5V or more to enable chip. Ground to shut down.", 6 FB (in) "Feedback Pin. Minimize the metal trace area to this pin to minimize noise. Reference voltage is 1.235V. There is an internal 76k resistor from the FB pin to GND.", 7 VOUT (power) "Drain of Output Disconnect PMOS. Place a bypass capacitor from this pin to GND. See Applications information.", 8 CAP "Source of Output Disconnect PMOS. Place a bypass capacitor from this pin to GND.", 9 CAP "Source of Output Disconnect PMOS. Place a bypass capacitor from this pin to GND.", 10 SW "Switch Pin. This is the collector of the internal NPN power switch. Minimize the metal trace area connected to this pin to minimize EMI.", 11 EP (power) "Ground. This pin must be soldered to PCB."

## LT3495BEDDB-1#PBF
designator U?
650 mA / 350 mA Micropower Low Noise Boost Converter with Output Disconnect, 10-pin SON (DDB10), -40 to 125 degC, Pb-Free; Manufacturer: Linear Technology; PartNumber: LT3495BEDDB-1#PBF; Number of Outputs: 1; DatasheetVersion: Rev. A; PackageVersion: Rev. Ø, 06/2010; PackageReference: DDB10; PackageDescription: 10-Pin Plastic DFN, Body 3 x 2 mm, Pitch 0.5 mm; Supplier 1: Farnell; Supplier Part Number 1: 2308209; Supplier 2: Newark; Supplier Part Number 2: 78T4018; RoHS: TRUE; Mounting Technology: Surface Mount; Code_JEDEC: MO-229; ComponentLink1Description: Manufacturer URL; ComponentLink1URL: http://www.linear.com/; ComponentLink2Description: Datasheet; ComponentLink2URL: http://cds.linear.com/docs/en/datasheet/3495b1b1fa.pdf; ComponentLink3Description: Package Specification; ComponentLink3URL: http://cds.linear.com/docs/en/packaging/DFN_10_05-08-1722.pdf
footprint LT-DDB-10_V (SON, 10-Leads, Body 3x2mm, Pitch 0.5mm, Thermal Pad 2.39x0.64mm)
pins: 1 GND (power) "Ground. Tie directly to local ground plane.", 2 GND (power) "Ground. Tie directly to local ground plane.", 3 VCC (power) "Input Supply Pin. Must be locally bypassed.", 4 CTRL (in) "Dimming Pin. If not used, tie CTRL to 1.5V or higher. If in use, drive CTRL below 1.235V to override the internal reference. See Applications section for more information.", 5 ~{SHDN} (in) "Shutdown Pin. Tie to 1.5V or more to enable chip. Ground to shut down.", 6 FB (in) "Feedback Pin. Minimize the metal trace area to this pin to minimize noise. Reference voltage is 1.235V. There is an internal 76k resistor from the FB pin to GND.", 7 VOUT (power) "Drain of Output Disconnect PMOS. Place a bypass capacitor from this pin to GND. See Applications information.", 8 CAP "Source of Output Disconnect PMOS. Place a bypass capacitor from this pin to GND.", 9 CAP "Source of Output Disconnect PMOS. Place a bypass capacitor from this pin to GND.", 10 SW "Switch Pin. This is the collector of the internal NPN power switch. Minimize the metal trace area connected to this pin to minimize EMI.", 11 EP (power) "Ground. This pin must be soldered to PCB."